# Altium footprint library SON50P300X100_HS-11N.PcbLib: 1 footprints
Each footprint in its own frame and in the unit in brackets; x right, y up, seen from the top. Pads: shape width x height; smd on the part's side, far side on the other; paste and mask are expansions set on the pad; w line width, h text height; cw(c..) or ccw(c..) is an arc to the next point about the centre after c.
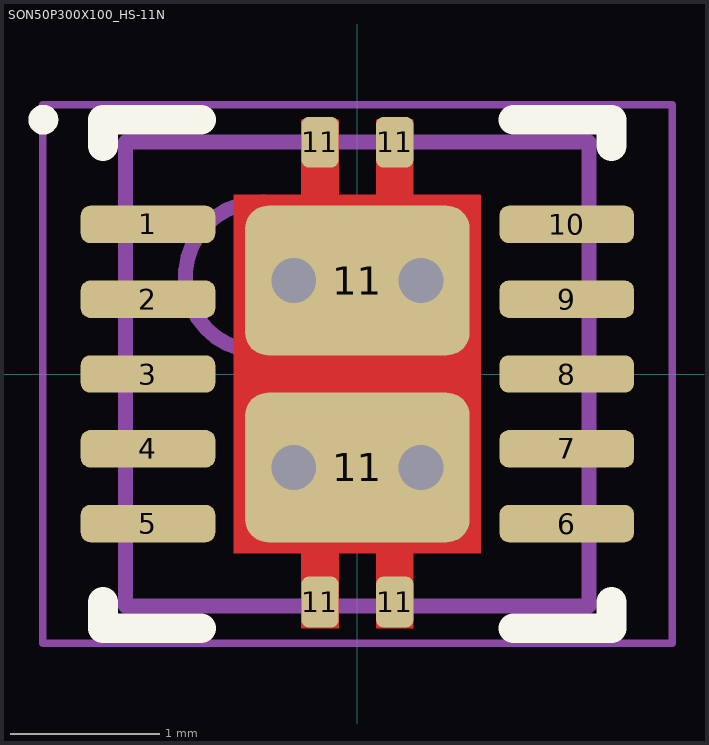
[diagram p0: the footprint, top view; thin cyan lines are the x and y axes]

## SON50P300X100_HS-11N [mm] "SON, 10-Leads, Body 3,00x3,00mm, Pitch 0,50mm, Thermal Pad 2,40x1,65mm, IPC Medium Density"
height 1
pads (16):
  rrect50% 0.9x0.25 smd: 1(-1.4,1) 2(-1.4,0.5) 3(-1.4,0) 4(-1.4,-0.5) 5(-1.4,-1) 6(1.4,-1) 7(1.4,-0.5) 8(1.4,0) 9(1.4,0.5) 10(1.4,1)
  rrect40% 0.25x0.34 smd: 11(-0.25,-1.525) 11(-0.25,1.55) 11(0.25,-1.525) 11(0.25,1.55)
  rrect30% 1.5x1 smd: 11(0,-0.625) 11(0,0.625)
via -0.425,-0.625 diameter 0.6 hole 0.3
via 0.425,-0.625 diameter 0.6 hole 0.3
via -0.425,0.625 diameter 0.6 hole 0.3
via 0.425,0.625 diameter 0.6 hole 0.3
Top Layer:
  region: -0.825,1.2 -0.825,-1.2 0.825,-1.2 0.825,1.2
  region: -0.375,1.7 -0.375,1.2 -0.125,1.2 -0.125,1.7
  region: 0.125,1.7 0.125,1.2 0.375,1.2 0.375,1.7
  region: 0.125,-1.2 0.125,-1.7 0.375,-1.7 0.375,-1.2
  region: -0.375,-1.2 -0.375,-1.7 -0.125,-1.7 -0.125,-1.2
Top Overlay:
  circle w0.1: c-2.1,1.7 r0.05
  lines w0.2: -1.7,-1.525 -1.7,-1.7 -1.045,-1.7 ; -1.7,1.525 -1.7,1.7 -1.045,1.7 ; 1.045,-1.7 1.7,-1.7 1.7,-1.525 ; 1.045,1.7 1.7,1.7 1.7,1.525
Top Solder:
  rectangle: -0.475,1.225 0.475,1.6
  rectangle: -1.825,-1.225 -0.825,1.225
  rectangle: 0.775,-1.225 1.775,1.225
  rectangle: -0.475,-1.575 0.475,-1.2
  region: -0.9,1.275 0.9,1.275 0.9,-1.275 -0.9,-1.275
Top Assembly:
  circle w0.1: c-0.65,0.65 r0.5
  lines w0.1: -1.55,-1.55 1.55,-1.55 1.55,1.55 -1.55,1.55 -1.55,-1.55
Mechanical 15:
  lines w0.05: -2.105,-1.8 2.105,-1.8 2.105,1.8 -2.105,1.8 -2.105,-1.8
  lines w0.1: -0.5,0 0.5,0 ; 0,-0.5 0,0.5
3D body "User Library-WSON-10_Ti.STEP": height 0.8, standoff 0, extent -1.55,-1.55 1.55,1.55